# EAGLE library part CONN_FFC_1X06 (library GPLIB_CONN)
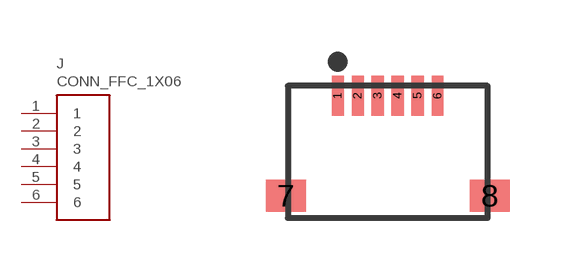
[diagram p1: symbol with the pads of CONN_FFC_1X06_0.5MM_SM_RA_F0504-H-06-10G; footprint CONN_FFC_1X06_0.5MM_SM_RA_F0504-H-06-10G]

Designator prefix J

## CONN_FFC_1X06_0.5MM_SM_RA_F0504-H-06-10G  [CONN_FFC_1X06_0.5MM_SM_RA_F0504-H-06-10G]
1  1  pas
2  2  pas
3  3  pas
4  4  pas
5  5  pas
6  6  pas

## Footprint CONN_FFC_1X06_0.5MM_SM_RA_F0504-H-06-10G (pad centres in mm)
smd 0.3 x 1: 1 -1.25,1.25; 2 -0.75,1.25; 3 -0.25,1.25; 4 0.25,1.25; 5 0.75,1.25; 6 1.25,1.25
smd 1 x 0.8: 7 -2.55,-1.25; 8 2.55,-1.25